# Altium footprint library JY31N.PcbLib: 1 footprints
Each footprint in its own frame and in the unit in brackets; x right, y up, seen from the top. Pads: shape width x height; smd on the part's side, far side on the other; paste and mask are expansions set on the pad; w line width, h text height; cw(c..) or ccw(c..) is an arc to the next point about the centre after c.
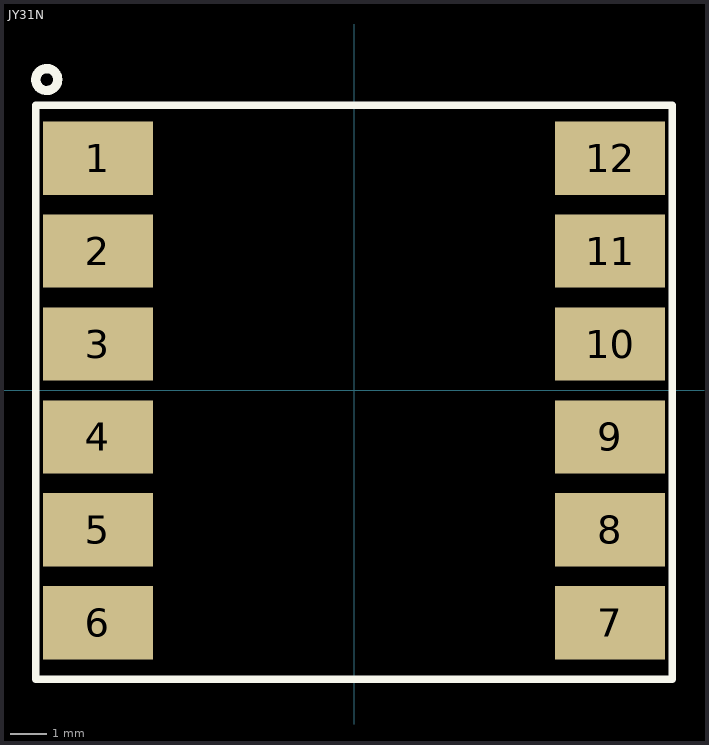
[diagram p0: the footprint, top view; thin cyan lines are the x and y axes]

## JY31N [mm]
height 0.55
pads (12):
  rect 3x2 smd: 1(-7,6.35) 2(-7,3.81) 3(-7,1.27) 4(-7,-1.27) 5(-7,-3.81) 6(-7,-6.35) 7(7,-6.35) 8(7,-3.81) 9(7,-1.27) 10(7,1.27) 11(7,3.81) 12(7,6.35)
Top Overlay:
  circle w0.254: c-8.4,8.5 r0.3
  lines w0.2: -8.7,-7.9 8.7,-7.9 8.7,7.8 -8.7,7.8 -8.7,-7.9
Top Assembly:
  lines w0.1: -8.7,-7.9 -8.7,7.8 8.7,7.8 8.7,0.3 8.7,-2.1 8.7,-7.9 -8.7,-7.9
  text "'.Designator'" at -0.975,-0.35 h0.7
3D body "Witmotion JY31N.STEP": height 2.65, standoff 0, extent -7.63,-7.575 7.63,7.575